# EAGLE library part 15EDGRC-3.5-8P-14-00A (library Connectors)
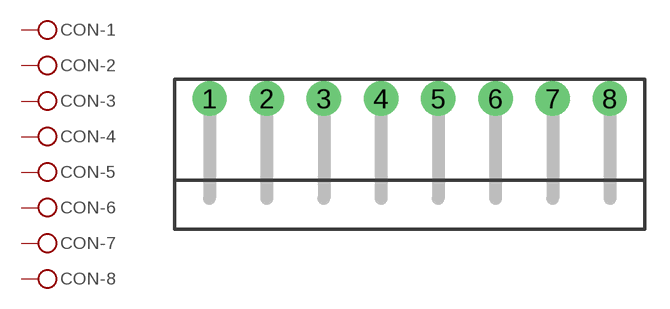
[diagram p21: symbol with the pads of 15EDGRC-3.5-8P-14-00A; footprint 15EDGRC-3.5-8P-14-00A]

Designator prefix CON; gates -1=KL -2=KL -3=KL -4=KL -5=KL -6=KL -7=KL -8=KL

## 15EDGRC-3.5-8P-14-00A  [15EDGRC-3.5-8P-14-00A]
1  -1:KL  pas
2  -2:KL  pas
3  -3:KL  pas
4  -4:KL  pas
5  -5:KL  pas
6  -6:KL  pas
7  -7:KL  pas
8  -8:KL  pas

## Footprint 15EDGRC-3.5-8P-14-00A (pad centres in mm)
drill 1.4: 1 0,0; 2 3.5,0; 3 7,0; 4 10.5,0; 5 14,0; 6 17.5,0; 7 21,0; 8 24.5,0